# Altium footprint library Batt_Keystone_3034TR_eec_MFG.PcbLib: 1 footprints
Each footprint in its own frame and in the unit in brackets; x right, y up, seen from the top. Pads: shape width x height; smd on the part's side, far side on the other; paste and mask are expansions set on the pad; w line width, h text height; cw(c..) or ccw(c..) is an arc to the next point about the centre after c.
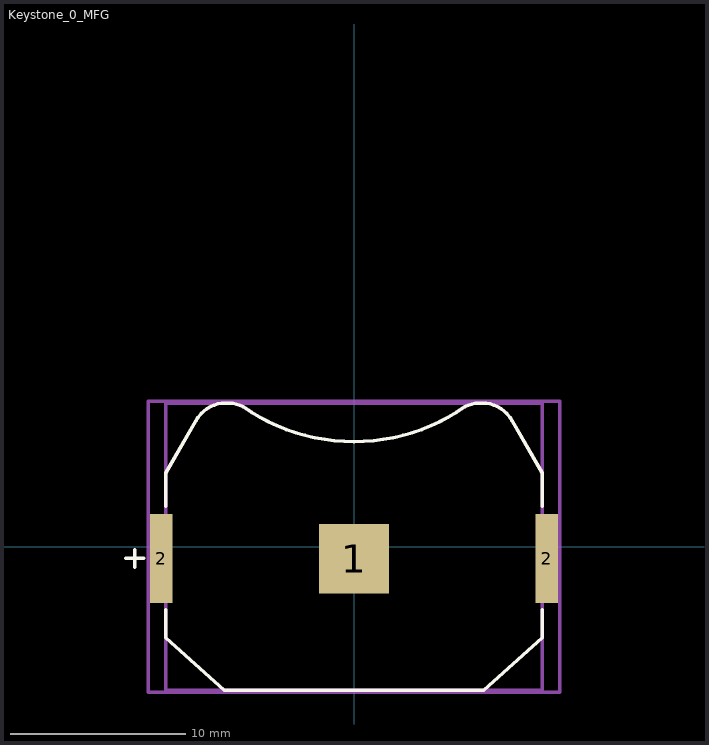
[diagram p0: the footprint, top view; thin cyan lines are the x and y axes]

## Keystone_0_MFG [mil]
pads (3):
  rect 156x156 smd paste-39370.1 mask+0: 1(0,-26.5)
  rect 50x200 smd paste+0 mask+0: 2(-432.48,-26.5) 2(432.48,-26.5)
Top Overlay:
  lines w7.87: -511.81,-26.38 -472.44,-26.38 ; -492.13,-46.06 -492.13,-6.69 ; -422.44,-141.73 -422.44,-204.13 -291.34,-322.24 291.34,-322.24 422.44,-204.13 422.44,-141.73 ; -422.44,90.55 -422.44,164.96 -354.33,283.07 cw(c-288.45,247.65) -287.4,322.44 cw(c-282.89,247.77) -249.21,314.57 ccw(c0,668.75) 249.21,314.57 cw(c282.89,247.77) 287.4,322.44 cw(c288.45,247.65) 354.33,283.07 422.44,164.96 422.44,90.55
Mechanical 10:
  lines w7.87: -461.42,-326.44 461.42,-326.44 461.42,326.44 -461.42,326.44 -461.42,-326.44
  text ".Designator" at 0,7.41 h39.37
Mechanical 12:
  lines w7.87: -422.5,-322.5 422.5,-322.5 422.5,322.5 -422.5,322.5 -422.5,-322.5
Mechanical 15:
  lines w3.94: -19.68,0 19.68,0 ; 0,-19.68 0,19.68
  lines w7.87: -461.42,-326.44 461.42,-326.44 461.42,326.44 -461.42,326.44 -461.42,-326.44
3D body "Batt_Keystone_3034TR_eec.STEP": height 10, standoff 0, extent -461.42,-326.44 461.42,326.44